# Altium footprint library Connector_Samtec_HLE_SMD.PcbLib: 290 footprints (part 15 of 24)
Each footprint in its own frame and in the unit in brackets; x right, y up, seen from the top. Pads: shape width x height; smd on the part's side, far side on the other; paste and mask are expansions set on the pad; w line width, h text height; cw(c..) or ccw(c..) is an arc to the next point about the centre after c.
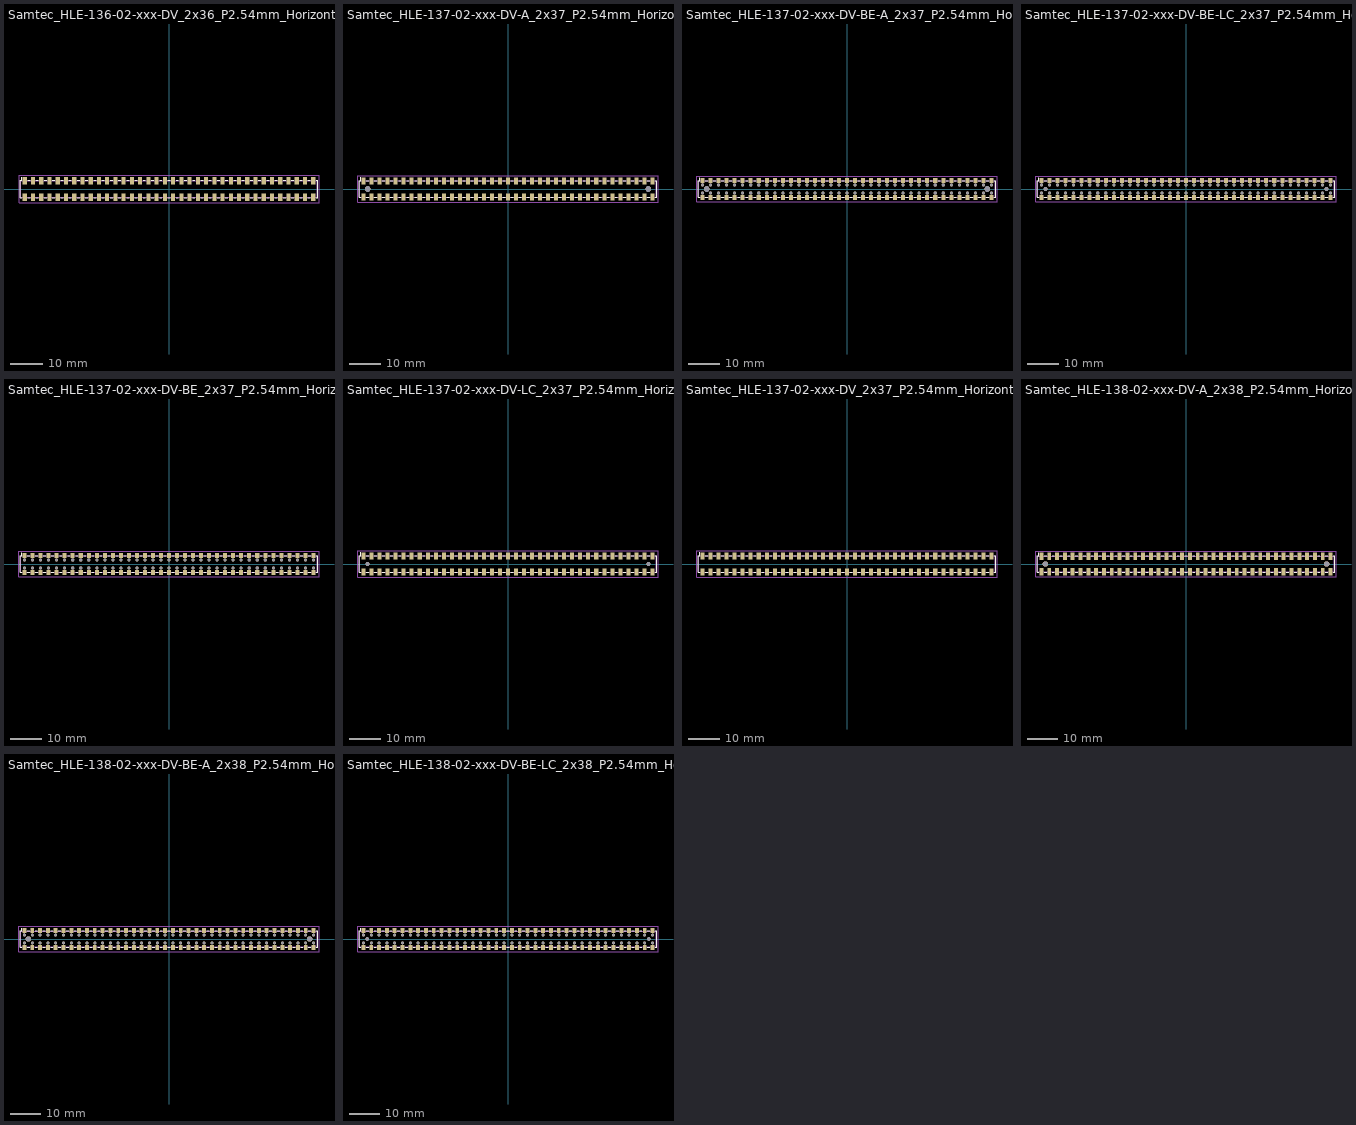
[diagram p14: the footprints below, top view; thin cyan lines are the x and y axes]

## Samtec_HLE-136-02-xxx-DV_2x36_P2.54mm_Horizontal [mm]
pads (72):
  rect 1.27x2.29 smd: 1(-44.45,2.525) 2(-44.45,-2.525) 3(-41.91,2.525) 4(-41.91,-2.525) 5(-39.37,2.525) 6(-39.37,-2.525) 7(-36.83,2.525) 8(-36.83,-2.525) 9(-34.29,2.525) 10(-34.29,-2.525) 11(-31.75,2.525) 12(-31.75,-2.525) 13(-29.21,2.525) 14(-29.21,-2.525) 15(-26.67,2.525) 16(-26.67,-2.525) 17(-24.13,2.525) 18(-24.13,-2.525) 19(-21.59,2.525) 20(-21.59,-2.525) 21(-19.05,2.525) 22(-19.05,-2.525) 23(-16.51,2.525) 24(-16.51,-2.525) 25(-13.97,2.525) 26(-13.97,-2.525) 27(-11.43,2.525) 28(-11.43,-2.525) 29(-8.89,2.525) 30(-8.89,-2.525) 31(-6.35,2.525) 32(-6.35,-2.525) 33(-3.81,2.525) 34(-3.81,-2.525) 35(-1.27,2.525) 36(-1.27,-2.525) 37(1.27,2.525) 38(1.27,-2.525) 39(3.81,2.525) 40(3.81,-2.525) 41(6.35,2.525) 42(6.35,-2.525) 43(8.89,2.525) 44(8.89,-2.525) 45(11.43,2.525) 46(11.43,-2.525) 47(13.97,2.525) 48(13.97,-2.525) 49(16.51,2.525) 50(16.51,-2.525) 51(19.05,2.525) 52(19.05,-2.525) 53(21.59,2.525) 54(21.59,-2.525) 55(24.13,2.525) 56(24.13,-2.525) 57(26.67,2.525) 58(26.67,-2.525) 59(29.21,2.525) 60(29.21,-2.525) 61(31.75,2.525) 62(31.75,-2.525) 63(34.29,2.525) 64(34.29,-2.525) 65(36.83,2.525) 66(36.83,-2.525) 67(39.37,2.525) 68(39.37,-2.525) 69(41.91,2.525) 70(41.91,-2.525) 71(44.45,2.525) 72(44.45,-2.525)
F.SilkS:
  lines w0.254: -45.345,-2.65 -45.83,-2.65 -45.83,2.65 -45.345,2.65 -45.345,3.67 ; -43.555,-2.65 -42.805,-2.65 ; -43.555,2.65 -42.805,2.65 ; -41.015,-2.65 -40.265,-2.65 ; -41.015,2.65 -40.265,2.65 ; -38.475,-2.65 -37.725,-2.65 ; -38.475,2.65 -37.725,2.65 ; -35.935,-2.65 -35.185,-2.65 ; -35.935,2.65 -35.185,2.65 ; -33.395,-2.65 -32.645,-2.65 ; -33.395,2.65 -32.645,2.65 ; -30.855,-2.65 -30.105,-2.65 ; -30.855,2.65 -30.105,2.65 ; -28.315,-2.65 -27.565,-2.65 ; -28.315,2.65 -27.565,2.65 ; -25.775,-2.65 -25.025,-2.65 ; -25.775,2.65 -25.025,2.65 ; -23.235,-2.65 -22.485,-2.65 ; -23.235,2.65 -22.485,2.65 ; -20.695,-2.65 -19.945,-2.65 ; -20.695,2.65 -19.945,2.65 ; -18.155,-2.65 -17.405,-2.65 ; -18.155,2.65 -17.405,2.65 ; -15.615,-2.65 -14.865,-2.65 ; -15.615,2.65 -14.865,2.65 ; -13.075,-2.65 -12.325,-2.65 ; -13.075,2.65 -12.325,2.65 ; -10.535,-2.65 -9.785,-2.65 ; -10.535,2.65 -9.785,2.65 ; -7.995,-2.65 -7.245,-2.65 ; -7.995,2.65 -7.245,2.65 ; -5.455,-2.65 -4.705,-2.65 ; -5.455,2.65 -4.705,2.65 ; -2.915,-2.65 -2.165,-2.65 ; -2.915,2.65 -2.165,2.65 ; -0.375,-2.65 0.375,-2.65 ; -0.375,2.65 0.375,2.65 ; 2.165,-2.65 2.915,-2.65 ; 2.165,2.65 2.915,2.65 ; 4.705,-2.65 5.455,-2.65 ; 4.705,2.65 5.455,2.65 ; 7.245,-2.65 7.995,-2.65 ; 7.245,2.65 7.995,2.65 ; 9.785,-2.65 10.535,-2.65 ; 9.785,2.65 10.535,2.65 ; 12.325,-2.65 13.075,-2.65 ; 12.325,2.65 13.075,2.65 ; 14.865,-2.65 15.615,-2.65 ; 14.865,2.65 15.615,2.65 ; 17.405,-2.65 18.155,-2.65 ; 17.405,2.65 18.155,2.65 ; 19.945,-2.65 20.695,-2.65 ; 19.945,2.65 20.695,2.65 ; 22.485,-2.65 23.235,-2.65 ; 22.485,2.65 23.235,2.65 ; 25.025,-2.65 25.775,-2.65 ; 25.025,2.65 25.775,2.65 ; 27.565,-2.65 28.315,-2.65 ; 27.565,2.65 28.315,2.65 ; 30.105,-2.65 30.855,-2.65 ; 30.105,2.65 30.855,2.65 ; 32.645,-2.65 33.395,-2.65 ; 32.645,2.65 33.395,2.65 ; 35.185,-2.65 35.935,-2.65 ; 35.185,2.65 35.935,2.65 ; 37.725,-2.65 38.475,-2.65 ; 37.725,2.65 38.475,2.65 ; 40.265,-2.65 41.015,-2.65 ; 40.265,2.65 41.015,2.65 ; 42.805,-2.65 43.555,-2.65 ; 42.805,2.65 43.555,2.65 ; 45.345,-2.65 45.83,-2.65 45.83,2.65 45.345,2.65
Top Assembly:
  lines w0.254: -44.95,2.54 -44.45,1.833 -43.95,2.54 ; -45.72,-2.54 45.72,-2.54 45.72,2.54 -45.72,2.54 -45.72,-2.54
  text "'.Designator'" at -4.047,-2.68 h1
Top Courtyard:
  lines w0.254: -46.22,-4.17 46.22,-4.17 46.22,4.17 -46.22,4.17 -46.22,-4.17
Top Designator:
  text ".Designator" at -7.618,-0.508 h1.52

## Samtec_HLE-137-02-xxx-DV-A_2x37_P2.54mm_Horizontal [mm]
pads (76):
  rect 1.27x2.29 smd: 1(-45.72,2.525) 2(-45.72,-2.525) 3(-43.18,2.525) 4(-43.18,-2.525) 5(-40.64,2.525) 6(-40.64,-2.525) 7(-38.1,2.525) 8(-38.1,-2.525) 9(-35.56,2.525) 10(-35.56,-2.525) 11(-33.02,2.525) 12(-33.02,-2.525) 13(-30.48,2.525) 14(-30.48,-2.525) 15(-27.94,2.525) 16(-27.94,-2.525) 17(-25.4,2.525) 18(-25.4,-2.525) 19(-22.86,2.525) 20(-22.86,-2.525) 21(-20.32,2.525) 22(-20.32,-2.525) 23(-17.78,2.525) 24(-17.78,-2.525) 25(-15.24,2.525) 26(-15.24,-2.525) 27(-12.7,2.525) 28(-12.7,-2.525) 29(-10.16,2.525) 30(-10.16,-2.525) 31(-7.62,2.525) 32(-7.62,-2.525) 33(-5.08,2.525) 34(-5.08,-2.525) 35(-2.54,2.525) 36(-2.54,-2.525) 37(0,2.525) 38(0,-2.525) 39(2.54,2.525) 40(2.54,-2.525) 41(5.08,2.525) 42(5.08,-2.525) 43(7.62,2.525) 44(7.62,-2.525) 45(10.16,2.525) 46(10.16,-2.525) 47(12.7,2.525) 48(12.7,-2.525) 49(15.24,2.525) 50(15.24,-2.525) 51(17.78,2.525) 52(17.78,-2.525) 53(20.32,2.525) 54(20.32,-2.525) 55(22.86,2.525) 56(22.86,-2.525) 57(25.4,2.525) 58(25.4,-2.525) 59(27.94,2.525) 60(27.94,-2.525) 61(30.48,2.525) 62(30.48,-2.525) 63(33.02,2.525) 64(33.02,-2.525) 65(35.56,2.525) 66(35.56,-2.525) 67(38.1,2.525) 68(38.1,-2.525) 69(40.64,2.525) 70(40.64,-2.525) 71(43.18,2.525) 72(43.18,-2.525) 73(45.72,2.525) 74(45.72,-2.525)
  round 1.78 hole 1.78: Un1(-44.45,0) Un2(44.45,0)
F.SilkS:
  lines w0.254: -46.615,-2.65 -47.1,-2.65 -47.1,2.65 -46.615,2.65 -46.615,3.67 ; -44.825,-2.65 -44.075,-2.65 ; -44.825,2.65 -44.075,2.65 ; -42.285,-2.65 -41.535,-2.65 ; -42.285,2.65 -41.535,2.65 ; -39.745,-2.65 -38.995,-2.65 ; -39.745,2.65 -38.995,2.65 ; -37.205,-2.65 -36.455,-2.65 ; -37.205,2.65 -36.455,2.65 ; -34.665,-2.65 -33.915,-2.65 ; -34.665,2.65 -33.915,2.65 ; -32.125,-2.65 -31.375,-2.65 ; -32.125,2.65 -31.375,2.65 ; -29.585,-2.65 -28.835,-2.65 ; -29.585,2.65 -28.835,2.65 ; -27.045,-2.65 -26.295,-2.65 ; -27.045,2.65 -26.295,2.65 ; -24.505,-2.65 -23.755,-2.65 ; -24.505,2.65 -23.755,2.65 ; -21.965,-2.65 -21.215,-2.65 ; -21.965,2.65 -21.215,2.65 ; -19.425,-2.65 -18.675,-2.65 ; -19.425,2.65 -18.675,2.65 ; -16.885,-2.65 -16.135,-2.65 ; -16.885,2.65 -16.135,2.65 ; -14.345,-2.65 -13.595,-2.65 ; -14.345,2.65 -13.595,2.65 ; -11.805,-2.65 -11.055,-2.65 ; -11.805,2.65 -11.055,2.65 ; -9.265,-2.65 -8.515,-2.65 ; -9.265,2.65 -8.515,2.65 ; -6.725,-2.65 -5.975,-2.65 ; -6.725,2.65 -5.975,2.65 ; -4.185,-2.65 -3.435,-2.65 ; -4.185,2.65 -3.435,2.65 ; -1.645,-2.65 -0.895,-2.65 ; -1.645,2.65 -0.895,2.65 ; 0.895,-2.65 1.645,-2.65 ; 0.895,2.65 1.645,2.65 ; 3.435,-2.65 4.185,-2.65 ; 3.435,2.65 4.185,2.65 ; 5.975,-2.65 6.725,-2.65 ; 5.975,2.65 6.725,2.65 ; 8.515,-2.65 9.265,-2.65 ; 8.515,2.65 9.265,2.65 ; 11.055,-2.65 11.805,-2.65 ; 11.055,2.65 11.805,2.65 ; 13.595,-2.65 14.345,-2.65 ; 13.595,2.65 14.345,2.65 ; 16.135,-2.65 16.885,-2.65 ; 16.135,2.65 16.885,2.65 ; 18.675,-2.65 19.425,-2.65 ; 18.675,2.65 19.425,2.65 ; 21.215,-2.65 21.965,-2.65 ; 21.215,2.65 21.965,2.65 ; 23.755,-2.65 24.505,-2.65 ; 23.755,2.65 24.505,2.65 ; 26.295,-2.65 27.045,-2.65 ; 26.295,2.65 27.045,2.65 ; 28.835,-2.65 29.585,-2.65 ; 28.835,2.65 29.585,2.65 ; 31.375,-2.65 32.125,-2.65 ; 31.375,2.65 32.125,2.65 ; 33.915,-2.65 34.665,-2.65 ; 33.915,2.65 34.665,2.65 ; 36.455,-2.65 37.205,-2.65 ; 36.455,2.65 37.205,2.65 ; 38.995,-2.65 39.745,-2.65 ; 38.995,2.65 39.745,2.65 ; 41.535,-2.65 42.285,-2.65 ; 41.535,2.65 42.285,2.65 ; 44.075,-2.65 44.825,-2.65 ; 44.075,2.65 44.825,2.65 ; 46.615,-2.65 47.1,-2.65 47.1,2.65 46.615,2.65
Top Assembly:
  lines w0.254: -46.22,2.54 -45.72,1.833 -45.22,2.54 ; -46.99,-2.54 46.99,-2.54 46.99,2.54 -46.99,2.54 -46.99,-2.54
  text "'.Designator'" at -4.047,-2.68 h1
Top Courtyard:
  lines w0.254: -47.49,-4.17 47.49,-4.17 47.49,4.17 -47.49,4.17 -47.49,-4.17
Top Designator:
  text ".Designator" at -7.618,-0.508 h1.52

## Samtec_HLE-137-02-xxx-DV-BE-A_2x37_P2.54mm_Horizontal [mm]
pads (150):
  rect 1.27x1.68 smd: 1(-45.72,2.72) 2(-45.72,-2.72) 3(-43.18,2.72) 4(-43.18,-2.72) 5(-40.64,2.72) 6(-40.64,-2.72) 7(-38.1,2.72) 8(-38.1,-2.72) 9(-35.56,2.72) 10(-35.56,-2.72) 11(-33.02,2.72) 12(-33.02,-2.72) 13(-30.48,2.72) 14(-30.48,-2.72) 15(-27.94,2.72) 16(-27.94,-2.72) 17(-25.4,2.72) 18(-25.4,-2.72) 19(-22.86,2.72) 20(-22.86,-2.72) 21(-20.32,2.72) 22(-20.32,-2.72) 23(-17.78,2.72) 24(-17.78,-2.72) 25(-15.24,2.72) 26(-15.24,-2.72) 27(-12.7,2.72) 28(-12.7,-2.72) 29(-10.16,2.72) 30(-10.16,-2.72) 31(-7.62,2.72) 32(-7.62,-2.72) 33(-5.08,2.72) 34(-5.08,-2.72) 35(-2.54,2.72) 36(-2.54,-2.72) 37(0,2.72) 38(0,-2.72) 39(2.54,2.72) 40(2.54,-2.72) 41(5.08,2.72) 42(5.08,-2.72) 43(7.62,2.72) 44(7.62,-2.72) 45(10.16,2.72) 46(10.16,-2.72) 47(12.7,2.72) 48(12.7,-2.72) 49(15.24,2.72) 50(15.24,-2.72) 51(17.78,2.72) 52(17.78,-2.72) 53(20.32,2.72) 54(20.32,-2.72) 55(22.86,2.72) 56(22.86,-2.72) 57(25.4,2.72) 58(25.4,-2.72) 59(27.94,2.72) 60(27.94,-2.72) 61(30.48,2.72) 62(30.48,-2.72) 63(33.02,2.72) 64(33.02,-2.72) 65(35.56,2.72) 66(35.56,-2.72) 67(38.1,2.72) 68(38.1,-2.72) 69(40.64,2.72) 70(40.64,-2.72) 71(43.18,2.72) 72(43.18,-2.72) 73(45.72,2.72) 74(45.72,-2.72)
  round 0.97 hole 0.97: Un1(-45.72,1.27) Un2(-45.72,-1.27) Un4(-43.18,1.27) Un5(-43.18,-1.27) Un6(-40.64,1.27) Un7(-40.64,-1.27) Un8(-38.1,1.27) Un9(-38.1,-1.27) Un10(-35.56,1.27) Un11(-35.56,-1.27) Un12(-33.02,1.27) Un13(-33.02,-1.27) Un14(-30.48,1.27) Un15(-30.48,-1.27) Un16(-27.94,1.27) Un17(-27.94,-1.27) Un18(-25.4,1.27) Un19(-25.4,-1.27) Un20(-22.86,1.27) Un21(-22.86,-1.27) Un22(-20.32,1.27) Un23(-20.32,-1.27) Un24(-17.78,1.27) Un25(-17.78,-1.27) Un26(-15.24,1.27) Un27(-15.24,-1.27) Un28(-12.7,1.27) Un29(-12.7,-1.27) Un30(-10.16,1.27) Un31(-10.16,-1.27) Un32(-7.62,1.27) Un33(-7.62,-1.27) Un34(-5.08,1.27) Un35(-5.08,-1.27) Un36(-2.54,1.27) Un37(-2.54,-1.27) Un38(0,1.27) Un39(0,-1.27) Un40(2.54,1.27) Un41(2.54,-1.27) Un42(5.08,1.27) Un43(5.08,-1.27) Un44(7.62,1.27) Un45(7.62,-1.27) Un46(10.16,1.27) Un47(10.16,-1.27) Un48(12.7,1.27) Un49(12.7,-1.27) Un50(15.24,1.27) Un51(15.24,-1.27) Un52(17.78,1.27) Un53(17.78,-1.27) Un54(20.32,1.27) Un55(20.32,-1.27) Un56(22.86,1.27) Un57(22.86,-1.27) Un58(25.4,1.27) Un59(25.4,-1.27) Un60(27.94,1.27) Un61(27.94,-1.27) Un62(30.48,1.27) Un63(30.48,-1.27) Un64(33.02,1.27) Un65(33.02,-1.27) Un66(35.56,1.27) Un67(35.56,-1.27) Un68(38.1,1.27) Un69(38.1,-1.27) Un70(40.64,1.27) Un71(40.64,-1.27) Un72(43.18,1.27) Un73(43.18,-1.27) Un75(45.72,1.27) Un76(45.72,-1.27)
  round 1.78 hole 1.78: Un3(-44.45,0) Un74(44.45,0)
F.SilkS:
  lines w0.254: -46.615,-2.65 -47.1,-2.65 -47.1,2.65 -46.615,2.65 -46.615,3.56 ; -44.825,-2.65 -44.075,-2.65 ; -44.825,2.65 -44.075,2.65 ; -42.285,-2.65 -41.535,-2.65 ; -42.285,2.65 -41.535,2.65 ; -39.745,-2.65 -38.995,-2.65 ; -39.745,2.65 -38.995,2.65 ; -37.205,-2.65 -36.455,-2.65 ; -37.205,2.65 -36.455,2.65 ; -34.665,-2.65 -33.915,-2.65 ; -34.665,2.65 -33.915,2.65 ; -32.125,-2.65 -31.375,-2.65 ; -32.125,2.65 -31.375,2.65 ; -29.585,-2.65 -28.835,-2.65 ; -29.585,2.65 -28.835,2.65 ; -27.045,-2.65 -26.295,-2.65 ; -27.045,2.65 -26.295,2.65 ; -24.505,-2.65 -23.755,-2.65 ; -24.505,2.65 -23.755,2.65 ; -21.965,-2.65 -21.215,-2.65 ; -21.965,2.65 -21.215,2.65 ; -19.425,-2.65 -18.675,-2.65 ; -19.425,2.65 -18.675,2.65 ; -16.885,-2.65 -16.135,-2.65 ; -16.885,2.65 -16.135,2.65 ; -14.345,-2.65 -13.595,-2.65 ; -14.345,2.65 -13.595,2.65 ; -11.805,-2.65 -11.055,-2.65 ; -11.805,2.65 -11.055,2.65 ; -9.265,-2.65 -8.515,-2.65 ; -9.265,2.65 -8.515,2.65 ; -6.725,-2.65 -5.975,-2.65 ; -6.725,2.65 -5.975,2.65 ; -4.185,-2.65 -3.435,-2.65 ; -4.185,2.65 -3.435,2.65 ; -1.645,-2.65 -0.895,-2.65 ; -1.645,2.65 -0.895,2.65 ; 0.895,-2.65 1.645,-2.65 ; 0.895,2.65 1.645,2.65 ; 3.435,-2.65 4.185,-2.65 ; 3.435,2.65 4.185,2.65 ; 5.975,-2.65 6.725,-2.65 ; 5.975,2.65 6.725,2.65 ; 8.515,-2.65 9.265,-2.65 ; 8.515,2.65 9.265,2.65 ; 11.055,-2.65 11.805,-2.65 ; 11.055,2.65 11.805,2.65 ; 13.595,-2.65 14.345,-2.65 ; 13.595,2.65 14.345,2.65 ; 16.135,-2.65 16.885,-2.65 ; 16.135,2.65 16.885,2.65 ; 18.675,-2.65 19.425,-2.65 ; 18.675,2.65 19.425,2.65 ; 21.215,-2.65 21.965,-2.65 ; 21.215,2.65 21.965,2.65 ; 23.755,-2.65 24.505,-2.65 ; 23.755,2.65 24.505,2.65 ; 26.295,-2.65 27.045,-2.65 ; 26.295,2.65 27.045,2.65 ; 28.835,-2.65 29.585,-2.65 ; 28.835,2.65 29.585,2.65 ; 31.375,-2.65 32.125,-2.65 ; 31.375,2.65 32.125,2.65 ; 33.915,-2.65 34.665,-2.65 ; 33.915,2.65 34.665,2.65 ; 36.455,-2.65 37.205,-2.65 ; 36.455,2.65 37.205,2.65 ; 38.995,-2.65 39.745,-2.65 ; 38.995,2.65 39.745,2.65 ; 41.535,-2.65 42.285,-2.65 ; 41.535,2.65 42.285,2.65 ; 44.075,-2.65 44.825,-2.65 ; 44.075,2.65 44.825,2.65 ; 46.615,-2.65 47.1,-2.65 47.1,2.65 46.615,2.65
Top Assembly:
  lines w0.254: -46.22,2.54 -45.72,1.833 -45.22,2.54 ; -46.99,-2.54 46.99,-2.54 46.99,2.54 -46.99,2.54 -46.99,-2.54
  text "'.Designator'" at -4.047,-2.68 h1
Top Courtyard:
  lines w0.254: -47.49,-4.07 47.49,-4.07 47.49,4.07 -47.49,4.07 -47.49,-4.07
Top Designator:
  text ".Designator" at -7.618,-0.508 h1.52

## Samtec_HLE-137-02-xxx-DV-BE-LC_2x37_P2.54mm_Horizontal [mm]
pads (150):
  rect 1.27x1.68 smd: 1(-45.72,2.72) 2(-45.72,-2.72) 3(-43.18,2.72) 4(-43.18,-2.72) 5(-40.64,2.72) 6(-40.64,-2.72) 7(-38.1,2.72) 8(-38.1,-2.72) 9(-35.56,2.72) 10(-35.56,-2.72) 11(-33.02,2.72) 12(-33.02,-2.72) 13(-30.48,2.72) 14(-30.48,-2.72) 15(-27.94,2.72) 16(-27.94,-2.72) 17(-25.4,2.72) 18(-25.4,-2.72) 19(-22.86,2.72) 20(-22.86,-2.72) 21(-20.32,2.72) 22(-20.32,-2.72) 23(-17.78,2.72) 24(-17.78,-2.72) 25(-15.24,2.72) 26(-15.24,-2.72) 27(-12.7,2.72) 28(-12.7,-2.72) 29(-10.16,2.72) 30(-10.16,-2.72) 31(-7.62,2.72) 32(-7.62,-2.72) 33(-5.08,2.72) 34(-5.08,-2.72) 35(-2.54,2.72) 36(-2.54,-2.72) 37(0,2.72) 38(0,-2.72) 39(2.54,2.72) 40(2.54,-2.72) 41(5.08,2.72) 42(5.08,-2.72) 43(7.62,2.72) 44(7.62,-2.72) 45(10.16,2.72) 46(10.16,-2.72) 47(12.7,2.72) 48(12.7,-2.72) 49(15.24,2.72) 50(15.24,-2.72) 51(17.78,2.72) 52(17.78,-2.72) 53(20.32,2.72) 54(20.32,-2.72) 55(22.86,2.72) 56(22.86,-2.72) 57(25.4,2.72) 58(25.4,-2.72) 59(27.94,2.72) 60(27.94,-2.72) 61(30.48,2.72) 62(30.48,-2.72) 63(33.02,2.72) 64(33.02,-2.72) 65(35.56,2.72) 66(35.56,-2.72) 67(38.1,2.72) 68(38.1,-2.72) 69(40.64,2.72) 70(40.64,-2.72) 71(43.18,2.72) 72(43.18,-2.72) 73(45.72,2.72) 74(45.72,-2.72)
  round 0.97 hole 0.97: Un1(-45.72,1.27) Un2(-45.72,-1.27) Un4(-43.18,1.27) Un5(-43.18,-1.27) Un6(-40.64,1.27) Un7(-40.64,-1.27) Un8(-38.1,1.27) Un9(-38.1,-1.27) Un10(-35.56,1.27) Un11(-35.56,-1.27) Un12(-33.02,1.27) Un13(-33.02,-1.27) Un14(-30.48,1.27) Un15(-30.48,-1.27) Un16(-27.94,1.27) Un17(-27.94,-1.27) Un18(-25.4,1.27) Un19(-25.4,-1.27) Un20(-22.86,1.27) Un21(-22.86,-1.27) Un22(-20.32,1.27) Un23(-20.32,-1.27) Un24(-17.78,1.27) Un25(-17.78,-1.27) Un26(-15.24,1.27) Un27(-15.24,-1.27) Un28(-12.7,1.27) Un29(-12.7,-1.27) Un30(-10.16,1.27) Un31(-10.16,-1.27) Un32(-7.62,1.27) Un33(-7.62,-1.27) Un34(-5.08,1.27) Un35(-5.08,-1.27) Un36(-2.54,1.27) Un37(-2.54,-1.27) Un38(0,1.27) Un39(0,-1.27) Un40(2.54,1.27) Un41(2.54,-1.27) Un42(5.08,1.27) Un43(5.08,-1.27) Un44(7.62,1.27) Un45(7.62,-1.27) Un46(10.16,1.27) Un47(10.16,-1.27) Un48(12.7,1.27) Un49(12.7,-1.27) Un50(15.24,1.27) Un51(15.24,-1.27) Un52(17.78,1.27) Un53(17.78,-1.27) Un54(20.32,1.27) Un55(20.32,-1.27) Un56(22.86,1.27) Un57(22.86,-1.27) Un58(25.4,1.27) Un59(25.4,-1.27) Un60(27.94,1.27) Un61(27.94,-1.27) Un62(30.48,1.27) Un63(30.48,-1.27) Un64(33.02,1.27) Un65(33.02,-1.27) Un66(35.56,1.27) Un67(35.56,-1.27) Un68(38.1,1.27) Un69(38.1,-1.27) Un70(40.64,1.27) Un71(40.64,-1.27) Un72(43.18,1.27) Un73(43.18,-1.27) Un75(45.72,1.27) Un76(45.72,-1.27)
  round 1.19 hole 1.19: Un3(-44.45,0) Un74(44.45,0)
F.SilkS:
  lines w0.254: -46.615,-2.65 -47.1,-2.65 -47.1,2.65 -46.615,2.65 -46.615,3.56 ; -44.825,-2.65 -44.075,-2.65 ; -44.825,2.65 -44.075,2.65 ; -42.285,-2.65 -41.535,-2.65 ; -42.285,2.65 -41.535,2.65 ; -39.745,-2.65 -38.995,-2.65 ; -39.745,2.65 -38.995,2.65 ; -37.205,-2.65 -36.455,-2.65 ; -37.205,2.65 -36.455,2.65 ; -34.665,-2.65 -33.915,-2.65 ; -34.665,2.65 -33.915,2.65 ; -32.125,-2.65 -31.375,-2.65 ; -32.125,2.65 -31.375,2.65 ; -29.585,-2.65 -28.835,-2.65 ; -29.585,2.65 -28.835,2.65 ; -27.045,-2.65 -26.295,-2.65 ; -27.045,2.65 -26.295,2.65 ; -24.505,-2.65 -23.755,-2.65 ; -24.505,2.65 -23.755,2.65 ; -21.965,-2.65 -21.215,-2.65 ; -21.965,2.65 -21.215,2.65 ; -19.425,-2.65 -18.675,-2.65 ; -19.425,2.65 -18.675,2.65 ; -16.885,-2.65 -16.135,-2.65 ; -16.885,2.65 -16.135,2.65 ; -14.345,-2.65 -13.595,-2.65 ; -14.345,2.65 -13.595,2.65 ; -11.805,-2.65 -11.055,-2.65 ; -11.805,2.65 -11.055,2.65 ; -9.265,-2.65 -8.515,-2.65 ; -9.265,2.65 -8.515,2.65 ; -6.725,-2.65 -5.975,-2.65 ; -6.725,2.65 -5.975,2.65 ; -4.185,-2.65 -3.435,-2.65 ; -4.185,2.65 -3.435,2.65 ; -1.645,-2.65 -0.895,-2.65 ; -1.645,2.65 -0.895,2.65 ; 0.895,-2.65 1.645,-2.65 ; 0.895,2.65 1.645,2.65 ; 3.435,-2.65 4.185,-2.65 ; 3.435,2.65 4.185,2.65 ; 5.975,-2.65 6.725,-2.65 ; 5.975,2.65 6.725,2.65 ; 8.515,-2.65 9.265,-2.65 ; 8.515,2.65 9.265,2.65 ; 11.055,-2.65 11.805,-2.65 ; 11.055,2.65 11.805,2.65 ; 13.595,-2.65 14.345,-2.65 ; 13.595,2.65 14.345,2.65 ; 16.135,-2.65 16.885,-2.65 ; 16.135,2.65 16.885,2.65 ; 18.675,-2.65 19.425,-2.65 ; 18.675,2.65 19.425,2.65 ; 21.215,-2.65 21.965,-2.65 ; 21.215,2.65 21.965,2.65 ; 23.755,-2.65 24.505,-2.65 ; 23.755,2.65 24.505,2.65 ; 26.295,-2.65 27.045,-2.65 ; 26.295,2.65 27.045,2.65 ; 28.835,-2.65 29.585,-2.65 ; 28.835,2.65 29.585,2.65 ; 31.375,-2.65 32.125,-2.65 ; 31.375,2.65 32.125,2.65 ; 33.915,-2.65 34.665,-2.65 ; 33.915,2.65 34.665,2.65 ; 36.455,-2.65 37.205,-2.65 ; 36.455,2.65 37.205,2.65 ; 38.995,-2.65 39.745,-2.65 ; 38.995,2.65 39.745,2.65 ; 41.535,-2.65 42.285,-2.65 ; 41.535,2.65 42.285,2.65 ; 44.075,-2.65 44.825,-2.65 ; 44.075,2.65 44.825,2.65 ; 46.615,-2.65 47.1,-2.65 47.1,2.65 46.615,2.65
Top Assembly:
  lines w0.254: -46.22,2.54 -45.72,1.833 -45.22,2.54 ; -46.99,-2.54 46.99,-2.54 46.99,2.54 -46.99,2.54 -46.99,-2.54
  text "'.Designator'" at -4.047,-2.68 h1
Top Courtyard:
  lines w0.254: -47.49,-4.07 47.49,-4.07 47.49,4.07 -47.49,4.07 -47.49,-4.07
Top Designator:
  text ".Designator" at -7.618,-0.508 h1.52

## Samtec_HLE-137-02-xxx-DV-BE_2x37_P2.54mm_Horizontal [mm]
pads (148):
  rect 1.27x1.68 smd: 1(-45.72,2.72) 2(-45.72,-2.72) 3(-43.18,2.72) 4(-43.18,-2.72) 5(-40.64,2.72) 6(-40.64,-2.72) 7(-38.1,2.72) 8(-38.1,-2.72) 9(-35.56,2.72) 10(-35.56,-2.72) 11(-33.02,2.72) 12(-33.02,-2.72) 13(-30.48,2.72) 14(-30.48,-2.72) 15(-27.94,2.72) 16(-27.94,-2.72) 17(-25.4,2.72) 18(-25.4,-2.72) 19(-22.86,2.72) 20(-22.86,-2.72) 21(-20.32,2.72) 22(-20.32,-2.72) 23(-17.78,2.72) 24(-17.78,-2.72) 25(-15.24,2.72) 26(-15.24,-2.72) 27(-12.7,2.72) 28(-12.7,-2.72) 29(-10.16,2.72) 30(-10.16,-2.72) 31(-7.62,2.72) 32(-7.62,-2.72) 33(-5.08,2.72) 34(-5.08,-2.72) 35(-2.54,2.72) 36(-2.54,-2.72) 37(0,2.72) 38(0,-2.72) 39(2.54,2.72) 40(2.54,-2.72) 41(5.08,2.72) 42(5.08,-2.72) 43(7.62,2.72) 44(7.62,-2.72) 45(10.16,2.72) 46(10.16,-2.72) 47(12.7,2.72) 48(12.7,-2.72) 49(15.24,2.72) 50(15.24,-2.72) 51(17.78,2.72) 52(17.78,-2.72) 53(20.32,2.72) 54(20.32,-2.72) 55(22.86,2.72) 56(22.86,-2.72) 57(25.4,2.72) 58(25.4,-2.72) 59(27.94,2.72) 60(27.94,-2.72) 61(30.48,2.72) 62(30.48,-2.72) 63(33.02,2.72) 64(33.02,-2.72) 65(35.56,2.72) 66(35.56,-2.72) 67(38.1,2.72) 68(38.1,-2.72) 69(40.64,2.72) 70(40.64,-2.72) 71(43.18,2.72) 72(43.18,-2.72) 73(45.72,2.72) 74(45.72,-2.72)
  round 0.97 hole 0.97: Un1(-45.72,1.27) Un2(-45.72,-1.27) Un3(-43.18,1.27) Un4(-43.18,-1.27) Un5(-40.64,1.27) Un6(-40.64,-1.27) Un7(-38.1,1.27) Un8(-38.1,-1.27) Un9(-35.56,1.27) Un10(-35.56,-1.27) Un11(-33.02,1.27) Un12(-33.02,-1.27) Un13(-30.48,1.27) Un14(-30.48,-1.27) Un15(-27.94,1.27) Un16(-27.94,-1.27) Un17(-25.4,1.27) Un18(-25.4,-1.27) Un19(-22.86,1.27) Un20(-22.86,-1.27) Un21(-20.32,1.27) Un22(-20.32,-1.27) Un23(-17.78,1.27) Un24(-17.78,-1.27) Un25(-15.24,1.27) Un26(-15.24,-1.27) Un27(-12.7,1.27) Un28(-12.7,-1.27) Un29(-10.16,1.27) Un30(-10.16,-1.27) Un31(-7.62,1.27) Un32(-7.62,-1.27) Un33(-5.08,1.27) Un34(-5.08,-1.27) Un35(-2.54,1.27) Un36(-2.54,-1.27) Un37(0,1.27) Un38(0,-1.27) Un39(2.54,1.27) Un40(2.54,-1.27) Un41(5.08,1.27) Un42(5.08,-1.27) Un43(7.62,1.27) Un44(7.62,-1.27) Un45(10.16,1.27) Un46(10.16,-1.27) Un47(12.7,1.27) Un48(12.7,-1.27) Un49(15.24,1.27) Un50(15.24,-1.27) Un51(17.78,1.27) Un52(17.78,-1.27) Un53(20.32,1.27) Un54(20.32,-1.27) Un55(22.86,1.27) Un56(22.86,-1.27) Un57(25.4,1.27) Un58(25.4,-1.27) Un59(27.94,1.27) Un60(27.94,-1.27) Un61(30.48,1.27) Un62(30.48,-1.27) Un63(33.02,1.27) Un64(33.02,-1.27) Un65(35.56,1.27) Un66(35.56,-1.27) Un67(38.1,1.27) Un68(38.1,-1.27) Un69(40.64,1.27) Un70(40.64,-1.27) Un71(43.18,1.27) Un72(43.18,-1.27) Un73(45.72,1.27) Un74(45.72,-1.27)
F.SilkS:
  lines w0.254: -46.615,-2.65 -47.1,-2.65 -47.1,2.65 -46.615,2.65 -46.615,3.56 ; -44.825,-2.65 -44.075,-2.65 ; -44.825,2.65 -44.075,2.65 ; -42.285,-2.65 -41.535,-2.65 ; -42.285,2.65 -41.535,2.65 ; -39.745,-2.65 -38.995,-2.65 ; -39.745,2.65 -38.995,2.65 ; -37.205,-2.65 -36.455,-2.65 ; -37.205,2.65 -36.455,2.65 ; -34.665,-2.65 -33.915,-2.65 ; -34.665,2.65 -33.915,2.65 ; -32.125,-2.65 -31.375,-2.65 ; -32.125,2.65 -31.375,2.65 ; -29.585,-2.65 -28.835,-2.65 ; -29.585,2.65 -28.835,2.65 ; -27.045,-2.65 -26.295,-2.65 ; -27.045,2.65 -26.295,2.65 ; -24.505,-2.65 -23.755,-2.65 ; -24.505,2.65 -23.755,2.65 ; -21.965,-2.65 -21.215,-2.65 ; -21.965,2.65 -21.215,2.65 ; -19.425,-2.65 -18.675,-2.65 ; -19.425,2.65 -18.675,2.65 ; -16.885,-2.65 -16.135,-2.65 ; -16.885,2.65 -16.135,2.65 ; -14.345,-2.65 -13.595,-2.65 ; -14.345,2.65 -13.595,2.65 ; -11.805,-2.65 -11.055,-2.65 ; -11.805,2.65 -11.055,2.65 ; -9.265,-2.65 -8.515,-2.65 ; -9.265,2.65 -8.515,2.65 ; -6.725,-2.65 -5.975,-2.65 ; -6.725,2.65 -5.975,2.65 ; -4.185,-2.65 -3.435,-2.65 ; -4.185,2.65 -3.435,2.65 ; -1.645,-2.65 -0.895,-2.65 ; -1.645,2.65 -0.895,2.65 ; 0.895,-2.65 1.645,-2.65 ; 0.895,2.65 1.645,2.65 ; 3.435,-2.65 4.185,-2.65 ; 3.435,2.65 4.185,2.65 ; 5.975,-2.65 6.725,-2.65 ; 5.975,2.65 6.725,2.65 ; 8.515,-2.65 9.265,-2.65 ; 8.515,2.65 9.265,2.65 ; 11.055,-2.65 11.805,-2.65 ; 11.055,2.65 11.805,2.65 ; 13.595,-2.65 14.345,-2.65 ; 13.595,2.65 14.345,2.65 ; 16.135,-2.65 16.885,-2.65 ; 16.135,2.65 16.885,2.65 ; 18.675,-2.65 19.425,-2.65 ; 18.675,2.65 19.425,2.65 ; 21.215,-2.65 21.965,-2.65 ; 21.215,2.65 21.965,2.65 ; 23.755,-2.65 24.505,-2.65 ; 23.755,2.65 24.505,2.65 ; 26.295,-2.65 27.045,-2.65 ; 26.295,2.65 27.045,2.65 ; 28.835,-2.65 29.585,-2.65 ; 28.835,2.65 29.585,2.65 ; 31.375,-2.65 32.125,-2.65 ; 31.375,2.65 32.125,2.65 ; 33.915,-2.65 34.665,-2.65 ; 33.915,2.65 34.665,2.65 ; 36.455,-2.65 37.205,-2.65 ; 36.455,2.65 37.205,2.65 ; 38.995,-2.65 39.745,-2.65 ; 38.995,2.65 39.745,2.65 ; 41.535,-2.65 42.285,-2.65 ; 41.535,2.65 42.285,2.65 ; 44.075,-2.65 44.825,-2.65 ; 44.075,2.65 44.825,2.65 ; 46.615,-2.65 47.1,-2.65 47.1,2.65 46.615,2.65
Top Assembly:
  lines w0.254: -46.22,2.54 -45.72,1.833 -45.22,2.54 ; -46.99,-2.54 46.99,-2.54 46.99,2.54 -46.99,2.54 -46.99,-2.54
  text "'.Designator'" at -4.047,-2.68 h1
Top Courtyard:
  lines w0.254: -47.49,-4.07 47.49,-4.07 47.49,4.07 -47.49,4.07 -47.49,-4.07
Top Designator:
  text ".Designator" at -7.618,-0.508 h1.52

## Samtec_HLE-137-02-xxx-DV-LC_2x37_P2.54mm_Horizontal [mm]
pads (76):
  rect 1.27x2.29 smd: 1(-45.72,2.525) 2(-45.72,-2.525) 3(-43.18,2.525) 4(-43.18,-2.525) 5(-40.64,2.525) 6(-40.64,-2.525) 7(-38.1,2.525) 8(-38.1,-2.525) 9(-35.56,2.525) 10(-35.56,-2.525) 11(-33.02,2.525) 12(-33.02,-2.525) 13(-30.48,2.525) 14(-30.48,-2.525) 15(-27.94,2.525) 16(-27.94,-2.525) 17(-25.4,2.525) 18(-25.4,-2.525) 19(-22.86,2.525) 20(-22.86,-2.525) 21(-20.32,2.525) 22(-20.32,-2.525) 23(-17.78,2.525) 24(-17.78,-2.525) 25(-15.24,2.525) 26(-15.24,-2.525) 27(-12.7,2.525) 28(-12.7,-2.525) 29(-10.16,2.525) 30(-10.16,-2.525) 31(-7.62,2.525) 32(-7.62,-2.525) 33(-5.08,2.525) 34(-5.08,-2.525) 35(-2.54,2.525) 36(-2.54,-2.525) 37(0,2.525) 38(0,-2.525) 39(2.54,2.525) 40(2.54,-2.525) 41(5.08,2.525) 42(5.08,-2.525) 43(7.62,2.525) 44(7.62,-2.525) 45(10.16,2.525) 46(10.16,-2.525) 47(12.7,2.525) 48(12.7,-2.525) 49(15.24,2.525) 50(15.24,-2.525) 51(17.78,2.525) 52(17.78,-2.525) 53(20.32,2.525) 54(20.32,-2.525) 55(22.86,2.525) 56(22.86,-2.525) 57(25.4,2.525) 58(25.4,-2.525) 59(27.94,2.525) 60(27.94,-2.525) 61(30.48,2.525) 62(30.48,-2.525) 63(33.02,2.525) 64(33.02,-2.525) 65(35.56,2.525) 66(35.56,-2.525) 67(38.1,2.525) 68(38.1,-2.525) 69(40.64,2.525) 70(40.64,-2.525) 71(43.18,2.525) 72(43.18,-2.525) 73(45.72,2.525) 74(45.72,-2.525)
  round 1.19 hole 1.19: Un1(-44.45,0) Un2(44.45,0)
F.SilkS:
  lines w0.254: -46.615,-2.65 -47.1,-2.65 -47.1,2.65 -46.615,2.65 -46.615,3.67 ; -44.825,-2.65 -44.075,-2.65 ; -44.825,2.65 -44.075,2.65 ; -42.285,-2.65 -41.535,-2.65 ; -42.285,2.65 -41.535,2.65 ; -39.745,-2.65 -38.995,-2.65 ; -39.745,2.65 -38.995,2.65 ; -37.205,-2.65 -36.455,-2.65 ; -37.205,2.65 -36.455,2.65 ; -34.665,-2.65 -33.915,-2.65 ; -34.665,2.65 -33.915,2.65 ; -32.125,-2.65 -31.375,-2.65 ; -32.125,2.65 -31.375,2.65 ; -29.585,-2.65 -28.835,-2.65 ; -29.585,2.65 -28.835,2.65 ; -27.045,-2.65 -26.295,-2.65 ; -27.045,2.65 -26.295,2.65 ; -24.505,-2.65 -23.755,-2.65 ; -24.505,2.65 -23.755,2.65 ; -21.965,-2.65 -21.215,-2.65 ; -21.965,2.65 -21.215,2.65 ; -19.425,-2.65 -18.675,-2.65 ; -19.425,2.65 -18.675,2.65 ; -16.885,-2.65 -16.135,-2.65 ; -16.885,2.65 -16.135,2.65 ; -14.345,-2.65 -13.595,-2.65 ; -14.345,2.65 -13.595,2.65 ; -11.805,-2.65 -11.055,-2.65 ; -11.805,2.65 -11.055,2.65 ; -9.265,-2.65 -8.515,-2.65 ; -9.265,2.65 -8.515,2.65 ; -6.725,-2.65 -5.975,-2.65 ; -6.725,2.65 -5.975,2.65 ; -4.185,-2.65 -3.435,-2.65 ; -4.185,2.65 -3.435,2.65 ; -1.645,-2.65 -0.895,-2.65 ; -1.645,2.65 -0.895,2.65 ; 0.895,-2.65 1.645,-2.65 ; 0.895,2.65 1.645,2.65 ; 3.435,-2.65 4.185,-2.65 ; 3.435,2.65 4.185,2.65 ; 5.975,-2.65 6.725,-2.65 ; 5.975,2.65 6.725,2.65 ; 8.515,-2.65 9.265,-2.65 ; 8.515,2.65 9.265,2.65 ; 11.055,-2.65 11.805,-2.65 ; 11.055,2.65 11.805,2.65 ; 13.595,-2.65 14.345,-2.65 ; 13.595,2.65 14.345,2.65 ; 16.135,-2.65 16.885,-2.65 ; 16.135,2.65 16.885,2.65 ; 18.675,-2.65 19.425,-2.65 ; 18.675,2.65 19.425,2.65 ; 21.215,-2.65 21.965,-2.65 ; 21.215,2.65 21.965,2.65 ; 23.755,-2.65 24.505,-2.65 ; 23.755,2.65 24.505,2.65 ; 26.295,-2.65 27.045,-2.65 ; 26.295,2.65 27.045,2.65 ; 28.835,-2.65 29.585,-2.65 ; 28.835,2.65 29.585,2.65 ; 31.375,-2.65 32.125,-2.65 ; 31.375,2.65 32.125,2.65 ; 33.915,-2.65 34.665,-2.65 ; 33.915,2.65 34.665,2.65 ; 36.455,-2.65 37.205,-2.65 ; 36.455,2.65 37.205,2.65 ; 38.995,-2.65 39.745,-2.65 ; 38.995,2.65 39.745,2.65 ; 41.535,-2.65 42.285,-2.65 ; 41.535,2.65 42.285,2.65 ; 44.075,-2.65 44.825,-2.65 ; 44.075,2.65 44.825,2.65 ; 46.615,-2.65 47.1,-2.65 47.1,2.65 46.615,2.65
Top Assembly:
  lines w0.254: -46.22,2.54 -45.72,1.833 -45.22,2.54 ; -46.99,-2.54 46.99,-2.54 46.99,2.54 -46.99,2.54 -46.99,-2.54
  text "'.Designator'" at -4.047,-2.68 h1
Top Courtyard:
  lines w0.254: -47.49,-4.17 47.49,-4.17 47.49,4.17 -47.49,4.17 -47.49,-4.17
Top Designator:
  text ".Designator" at -7.618,-0.508 h1.52

## Samtec_HLE-137-02-xxx-DV_2x37_P2.54mm_Horizontal [mm]
pads (74):
  rect 1.27x2.29 smd: 1(-45.72,2.525) 2(-45.72,-2.525) 3(-43.18,2.525) 4(-43.18,-2.525) 5(-40.64,2.525) 6(-40.64,-2.525) 7(-38.1,2.525) 8(-38.1,-2.525) 9(-35.56,2.525) 10(-35.56,-2.525) 11(-33.02,2.525) 12(-33.02,-2.525) 13(-30.48,2.525) 14(-30.48,-2.525) 15(-27.94,2.525) 16(-27.94,-2.525) 17(-25.4,2.525) 18(-25.4,-2.525) 19(-22.86,2.525) 20(-22.86,-2.525) 21(-20.32,2.525) 22(-20.32,-2.525) 23(-17.78,2.525) 24(-17.78,-2.525) 25(-15.24,2.525) 26(-15.24,-2.525) 27(-12.7,2.525) 28(-12.7,-2.525) 29(-10.16,2.525) 30(-10.16,-2.525) 31(-7.62,2.525) 32(-7.62,-2.525) 33(-5.08,2.525) 34(-5.08,-2.525) 35(-2.54,2.525) 36(-2.54,-2.525) 37(0,2.525) 38(0,-2.525) 39(2.54,2.525) 40(2.54,-2.525) 41(5.08,2.525) 42(5.08,-2.525) 43(7.62,2.525) 44(7.62,-2.525) 45(10.16,2.525) 46(10.16,-2.525) 47(12.7,2.525) 48(12.7,-2.525) 49(15.24,2.525) 50(15.24,-2.525) 51(17.78,2.525) 52(17.78,-2.525) 53(20.32,2.525) 54(20.32,-2.525) 55(22.86,2.525) 56(22.86,-2.525) 57(25.4,2.525) 58(25.4,-2.525) 59(27.94,2.525) 60(27.94,-2.525) 61(30.48,2.525) 62(30.48,-2.525) 63(33.02,2.525) 64(33.02,-2.525) 65(35.56,2.525) 66(35.56,-2.525) 67(38.1,2.525) 68(38.1,-2.525) 69(40.64,2.525) 70(40.64,-2.525) 71(43.18,2.525) 72(43.18,-2.525) 73(45.72,2.525) 74(45.72,-2.525)
F.SilkS:
  lines w0.254: -46.615,-2.65 -47.1,-2.65 -47.1,2.65 -46.615,2.65 -46.615,3.67 ; -44.825,-2.65 -44.075,-2.65 ; -44.825,2.65 -44.075,2.65 ; -42.285,-2.65 -41.535,-2.65 ; -42.285,2.65 -41.535,2.65 ; -39.745,-2.65 -38.995,-2.65 ; -39.745,2.65 -38.995,2.65 ; -37.205,-2.65 -36.455,-2.65 ; -37.205,2.65 -36.455,2.65 ; -34.665,-2.65 -33.915,-2.65 ; -34.665,2.65 -33.915,2.65 ; -32.125,-2.65 -31.375,-2.65 ; -32.125,2.65 -31.375,2.65 ; -29.585,-2.65 -28.835,-2.65 ; -29.585,2.65 -28.835,2.65 ; -27.045,-2.65 -26.295,-2.65 ; -27.045,2.65 -26.295,2.65 ; -24.505,-2.65 -23.755,-2.65 ; -24.505,2.65 -23.755,2.65 ; -21.965,-2.65 -21.215,-2.65 ; -21.965,2.65 -21.215,2.65 ; -19.425,-2.65 -18.675,-2.65 ; -19.425,2.65 -18.675,2.65 ; -16.885,-2.65 -16.135,-2.65 ; -16.885,2.65 -16.135,2.65 ; -14.345,-2.65 -13.595,-2.65 ; -14.345,2.65 -13.595,2.65 ; -11.805,-2.65 -11.055,-2.65 ; -11.805,2.65 -11.055,2.65 ; -9.265,-2.65 -8.515,-2.65 ; -9.265,2.65 -8.515,2.65 ; -6.725,-2.65 -5.975,-2.65 ; -6.725,2.65 -5.975,2.65 ; -4.185,-2.65 -3.435,-2.65 ; -4.185,2.65 -3.435,2.65 ; -1.645,-2.65 -0.895,-2.65 ; -1.645,2.65 -0.895,2.65 ; 0.895,-2.65 1.645,-2.65 ; 0.895,2.65 1.645,2.65 ; 3.435,-2.65 4.185,-2.65 ; 3.435,2.65 4.185,2.65 ; 5.975,-2.65 6.725,-2.65 ; 5.975,2.65 6.725,2.65 ; 8.515,-2.65 9.265,-2.65 ; 8.515,2.65 9.265,2.65 ; 11.055,-2.65 11.805,-2.65 ; 11.055,2.65 11.805,2.65 ; 13.595,-2.65 14.345,-2.65 ; 13.595,2.65 14.345,2.65 ; 16.135,-2.65 16.885,-2.65 ; 16.135,2.65 16.885,2.65 ; 18.675,-2.65 19.425,-2.65 ; 18.675,2.65 19.425,2.65 ; 21.215,-2.65 21.965,-2.65 ; 21.215,2.65 21.965,2.65 ; 23.755,-2.65 24.505,-2.65 ; 23.755,2.65 24.505,2.65 ; 26.295,-2.65 27.045,-2.65 ; 26.295,2.65 27.045,2.65 ; 28.835,-2.65 29.585,-2.65 ; 28.835,2.65 29.585,2.65 ; 31.375,-2.65 32.125,-2.65 ; 31.375,2.65 32.125,2.65 ; 33.915,-2.65 34.665,-2.65 ; 33.915,2.65 34.665,2.65 ; 36.455,-2.65 37.205,-2.65 ; 36.455,2.65 37.205,2.65 ; 38.995,-2.65 39.745,-2.65 ; 38.995,2.65 39.745,2.65 ; 41.535,-2.65 42.285,-2.65 ; 41.535,2.65 42.285,2.65 ; 44.075,-2.65 44.825,-2.65 ; 44.075,2.65 44.825,2.65 ; 46.615,-2.65 47.1,-2.65 47.1,2.65 46.615,2.65
Top Assembly:
  lines w0.254: -46.22,2.54 -45.72,1.833 -45.22,2.54 ; -46.99,-2.54 46.99,-2.54 46.99,2.54 -46.99,2.54 -46.99,-2.54
  text "'.Designator'" at -4.047,-2.68 h1
Top Courtyard:
  lines w0.254: -47.49,-4.17 47.49,-4.17 47.49,4.17 -47.49,4.17 -47.49,-4.17
Top Designator:
  text ".Designator" at -7.618,-0.508 h1.52

## Samtec_HLE-138-02-xxx-DV-A_2x38_P2.54mm_Horizontal [mm]
pads (78):
  rect 1.27x2.29 smd: 1(-46.99,2.525) 2(-46.99,-2.525) 3(-44.45,2.525) 4(-44.45,-2.525) 5(-41.91,2.525) 6(-41.91,-2.525) 7(-39.37,2.525) 8(-39.37,-2.525) 9(-36.83,2.525) 10(-36.83,-2.525) 11(-34.29,2.525) 12(-34.29,-2.525) 13(-31.75,2.525) 14(-31.75,-2.525) 15(-29.21,2.525) 16(-29.21,-2.525) 17(-26.67,2.525) 18(-26.67,-2.525) 19(-24.13,2.525) 20(-24.13,-2.525) 21(-21.59,2.525) 22(-21.59,-2.525) 23(-19.05,2.525) 24(-19.05,-2.525) 25(-16.51,2.525) 26(-16.51,-2.525) 27(-13.97,2.525) 28(-13.97,-2.525) 29(-11.43,2.525) 30(-11.43,-2.525) 31(-8.89,2.525) 32(-8.89,-2.525) 33(-6.35,2.525) 34(-6.35,-2.525) 35(-3.81,2.525) 36(-3.81,-2.525) 37(-1.27,2.525) 38(-1.27,-2.525) 39(1.27,2.525) 40(1.27,-2.525) 41(3.81,2.525) 42(3.81,-2.525) 43(6.35,2.525) 44(6.35,-2.525) 45(8.89,2.525) 46(8.89,-2.525) 47(11.43,2.525) 48(11.43,-2.525) 49(13.97,2.525) 50(13.97,-2.525) 51(16.51,2.525) 52(16.51,-2.525) 53(19.05,2.525) 54(19.05,-2.525) 55(21.59,2.525) 56(21.59,-2.525) 57(24.13,2.525) 58(24.13,-2.525) 59(26.67,2.525) 60(26.67,-2.525) 61(29.21,2.525) 62(29.21,-2.525) 63(31.75,2.525) 64(31.75,-2.525) 65(34.29,2.525) 66(34.29,-2.525) 67(36.83,2.525) 68(36.83,-2.525) 69(39.37,2.525) 70(39.37,-2.525) 71(41.91,2.525) 72(41.91,-2.525) 73(44.45,2.525) 74(44.45,-2.525) 75(46.99,2.525) 76(46.99,-2.525)
  round 1.78 hole 1.78: Un1(-45.72,0) Un2(45.72,0)
F.SilkS:
  lines w0.254: -47.885,-2.65 -48.37,-2.65 -48.37,2.65 -47.885,2.65 -47.885,3.67 ; -46.095,-2.65 -45.345,-2.65 ; -46.095,2.65 -45.345,2.65 ; -43.555,-2.65 -42.805,-2.65 ; -43.555,2.65 -42.805,2.65 ; -41.015,-2.65 -40.265,-2.65 ; -41.015,2.65 -40.265,2.65 ; -38.475,-2.65 -37.725,-2.65 ; -38.475,2.65 -37.725,2.65 ; -35.935,-2.65 -35.185,-2.65 ; -35.935,2.65 -35.185,2.65 ; -33.395,-2.65 -32.645,-2.65 ; -33.395,2.65 -32.645,2.65 ; -30.855,-2.65 -30.105,-2.65 ; -30.855,2.65 -30.105,2.65 ; -28.315,-2.65 -27.565,-2.65 ; -28.315,2.65 -27.565,2.65 ; -25.775,-2.65 -25.025,-2.65 ; -25.775,2.65 -25.025,2.65 ; -23.235,-2.65 -22.485,-2.65 ; -23.235,2.65 -22.485,2.65 ; -20.695,-2.65 -19.945,-2.65 ; -20.695,2.65 -19.945,2.65 ; -18.155,-2.65 -17.405,-2.65 ; -18.155,2.65 -17.405,2.65 ; -15.615,-2.65 -14.865,-2.65 ; -15.615,2.65 -14.865,2.65 ; -13.075,-2.65 -12.325,-2.65 ; -13.075,2.65 -12.325,2.65 ; -10.535,-2.65 -9.785,-2.65 ; -10.535,2.65 -9.785,2.65 ; -7.995,-2.65 -7.245,-2.65 ; -7.995,2.65 -7.245,2.65 ; -5.455,-2.65 -4.705,-2.65 ; -5.455,2.65 -4.705,2.65 ; -2.915,-2.65 -2.165,-2.65 ; -2.915,2.65 -2.165,2.65 ; -0.375,-2.65 0.375,-2.65 ; -0.375,2.65 0.375,2.65 ; 2.165,-2.65 2.915,-2.65 ; 2.165,2.65 2.915,2.65 ; 4.705,-2.65 5.455,-2.65 ; 4.705,2.65 5.455,2.65 ; 7.245,-2.65 7.995,-2.65 ; 7.245,2.65 7.995,2.65 ; 9.785,-2.65 10.535,-2.65 ; 9.785,2.65 10.535,2.65 ; 12.325,-2.65 13.075,-2.65 ; 12.325,2.65 13.075,2.65 ; 14.865,-2.65 15.615,-2.65 ; 14.865,2.65 15.615,2.65 ; 17.405,-2.65 18.155,-2.65 ; 17.405,2.65 18.155,2.65 ; 19.945,-2.65 20.695,-2.65 ; 19.945,2.65 20.695,2.65 ; 22.485,-2.65 23.235,-2.65 ; 22.485,2.65 23.235,2.65 ; 25.025,-2.65 25.775,-2.65 ; 25.025,2.65 25.775,2.65 ; 27.565,-2.65 28.315,-2.65 ; 27.565,2.65 28.315,2.65 ; 30.105,-2.65 30.855,-2.65 ; 30.105,2.65 30.855,2.65 ; 32.645,-2.65 33.395,-2.65 ; 32.645,2.65 33.395,2.65 ; 35.185,-2.65 35.935,-2.65 ; 35.185,2.65 35.935,2.65 ; 37.725,-2.65 38.475,-2.65 ; 37.725,2.65 38.475,2.65 ; 40.265,-2.65 41.015,-2.65 ; 40.265,2.65 41.015,2.65 ; 42.805,-2.65 43.555,-2.65 ; 42.805,2.65 43.555,2.65 ; 45.345,-2.65 46.095,-2.65 ; 45.345,2.65 46.095,2.65 ; 47.885,-2.65 48.37,-2.65 48.37,2.65 47.885,2.65
Top Assembly:
  lines w0.254: -47.49,2.54 -46.99,1.833 -46.49,2.54 ; -48.26,-2.54 48.26,-2.54 48.26,2.54 -48.26,2.54 -48.26,-2.54
  text "'.Designator'" at -4.047,-2.68 h1
Top Courtyard:
  lines w0.254: -48.76,-4.17 48.76,-4.17 48.76,4.17 -48.76,4.17 -48.76,-4.17
Top Designator:
  text ".Designator" at -7.618,-0.508 h1.52

## Samtec_HLE-138-02-xxx-DV-BE-A_2x38_P2.54mm_Horizontal [mm]
pads (154):
  rect 1.27x1.68 smd: 1(-46.99,2.72) 2(-46.99,-2.72) 3(-44.45,2.72) 4(-44.45,-2.72) 5(-41.91,2.72) 6(-41.91,-2.72) 7(-39.37,2.72) 8(-39.37,-2.72) 9(-36.83,2.72) 10(-36.83,-2.72) 11(-34.29,2.72) 12(-34.29,-2.72) 13(-31.75,2.72) 14(-31.75,-2.72) 15(-29.21,2.72) 16(-29.21,-2.72) 17(-26.67,2.72) 18(-26.67,-2.72) 19(-24.13,2.72) 20(-24.13,-2.72) 21(-21.59,2.72) 22(-21.59,-2.72) 23(-19.05,2.72) 24(-19.05,-2.72) 25(-16.51,2.72) 26(-16.51,-2.72) 27(-13.97,2.72) 28(-13.97,-2.72) 29(-11.43,2.72) 30(-11.43,-2.72) 31(-8.89,2.72) 32(-8.89,-2.72) 33(-6.35,2.72) 34(-6.35,-2.72) 35(-3.81,2.72) 36(-3.81,-2.72) 37(-1.27,2.72) 38(-1.27,-2.72) 39(1.27,2.72) 40(1.27,-2.72) 41(3.81,2.72) 42(3.81,-2.72) 43(6.35,2.72) 44(6.35,-2.72) 45(8.89,2.72) 46(8.89,-2.72) 47(11.43,2.72) 48(11.43,-2.72) 49(13.97,2.72) 50(13.97,-2.72) 51(16.51,2.72) 52(16.51,-2.72) 53(19.05,2.72) 54(19.05,-2.72) 55(21.59,2.72) 56(21.59,-2.72) 57(24.13,2.72) 58(24.13,-2.72) 59(26.67,2.72) 60(26.67,-2.72) 61(29.21,2.72) 62(29.21,-2.72) 63(31.75,2.72) 64(31.75,-2.72) 65(34.29,2.72) 66(34.29,-2.72) 67(36.83,2.72) 68(36.83,-2.72) 69(39.37,2.72) 70(39.37,-2.72) 71(41.91,2.72) 72(41.91,-2.72) 73(44.45,2.72) 74(44.45,-2.72) 75(46.99,2.72) 76(46.99,-2.72)
  round 0.97 hole 0.97: Un1(-46.99,1.27) Un2(-46.99,-1.27) Un4(-44.45,1.27) Un5(-44.45,-1.27) Un6(-41.91,1.27) Un7(-41.91,-1.27) Un8(-39.37,1.27) Un9(-39.37,-1.27) Un10(-36.83,1.27) Un11(-36.83,-1.27) Un12(-34.29,1.27) Un13(-34.29,-1.27) Un14(-31.75,1.27) Un15(-31.75,-1.27) Un16(-29.21,1.27) Un17(-29.21,-1.27) Un18(-26.67,1.27) Un19(-26.67,-1.27) Un20(-24.13,1.27) Un21(-24.13,-1.27) Un22(-21.59,1.27) Un23(-21.59,-1.27) Un24(-19.05,1.27) Un25(-19.05,-1.27) Un26(-16.51,1.27) Un27(-16.51,-1.27) Un28(-13.97,1.27) Un29(-13.97,-1.27) Un30(-11.43,1.27) Un31(-11.43,-1.27) Un32(-8.89,1.27) Un33(-8.89,-1.27) Un34(-6.35,1.27) Un35(-6.35,-1.27) Un36(-3.81,1.27) Un37(-3.81,-1.27) Un38(-1.27,1.27) Un39(-1.27,-1.27) Un40(1.27,1.27) Un41(1.27,-1.27) Un42(3.81,1.27) Un43(3.81,-1.27) Un44(6.35,1.27) Un45(6.35,-1.27) Un46(8.89,1.27) Un47(8.89,-1.27) Un48(11.43,1.27) Un49(11.43,-1.27) Un50(13.97,1.27) Un51(13.97,-1.27) Un52(16.51,1.27) Un53(16.51,-1.27) Un54(19.05,1.27) Un55(19.05,-1.27) Un56(21.59,1.27) Un57(21.59,-1.27) Un58(24.13,1.27) Un59(24.13,-1.27) Un60(26.67,1.27) Un61(26.67,-1.27) Un62(29.21,1.27) Un63(29.21,-1.27) Un64(31.75,1.27) Un65(31.75,-1.27) Un66(34.29,1.27) Un67(34.29,-1.27) Un68(36.83,1.27) Un69(36.83,-1.27) Un70(39.37,1.27) Un71(39.37,-1.27) Un72(41.91,1.27) Un73(41.91,-1.27) Un74(44.45,1.27) Un75(44.45,-1.27) Un77(46.99,1.27) Un78(46.99,-1.27)
  round 1.78 hole 1.78: Un3(-45.72,0) Un76(45.72,0)
F.SilkS:
  lines w0.254: -47.885,-2.65 -48.37,-2.65 -48.37,2.65 -47.885,2.65 -47.885,3.56 ; -46.095,-2.65 -45.345,-2.65 ; -46.095,2.65 -45.345,2.65 ; -43.555,-2.65 -42.805,-2.65 ; -43.555,2.65 -42.805,2.65 ; -41.015,-2.65 -40.265,-2.65 ; -41.015,2.65 -40.265,2.65 ; -38.475,-2.65 -37.725,-2.65 ; -38.475,2.65 -37.725,2.65 ; -35.935,-2.65 -35.185,-2.65 ; -35.935,2.65 -35.185,2.65 ; -33.395,-2.65 -32.645,-2.65 ; -33.395,2.65 -32.645,2.65 ; -30.855,-2.65 -30.105,-2.65 ; -30.855,2.65 -30.105,2.65 ; -28.315,-2.65 -27.565,-2.65 ; -28.315,2.65 -27.565,2.65 ; -25.775,-2.65 -25.025,-2.65 ; -25.775,2.65 -25.025,2.65 ; -23.235,-2.65 -22.485,-2.65 ; -23.235,2.65 -22.485,2.65 ; -20.695,-2.65 -19.945,-2.65 ; -20.695,2.65 -19.945,2.65 ; -18.155,-2.65 -17.405,-2.65 ; -18.155,2.65 -17.405,2.65 ; -15.615,-2.65 -14.865,-2.65 ; -15.615,2.65 -14.865,2.65 ; -13.075,-2.65 -12.325,-2.65 ; -13.075,2.65 -12.325,2.65 ; -10.535,-2.65 -9.785,-2.65 ; -10.535,2.65 -9.785,2.65 ; -7.995,-2.65 -7.245,-2.65 ; -7.995,2.65 -7.245,2.65 ; -5.455,-2.65 -4.705,-2.65 ; -5.455,2.65 -4.705,2.65 ; -2.915,-2.65 -2.165,-2.65 ; -2.915,2.65 -2.165,2.65 ; -0.375,-2.65 0.375,-2.65 ; -0.375,2.65 0.375,2.65 ; 2.165,-2.65 2.915,-2.65 ; 2.165,2.65 2.915,2.65 ; 4.705,-2.65 5.455,-2.65 ; 4.705,2.65 5.455,2.65 ; 7.245,-2.65 7.995,-2.65 ; 7.245,2.65 7.995,2.65 ; 9.785,-2.65 10.535,-2.65 ; 9.785,2.65 10.535,2.65 ; 12.325,-2.65 13.075,-2.65 ; 12.325,2.65 13.075,2.65 ; 14.865,-2.65 15.615,-2.65 ; 14.865,2.65 15.615,2.65 ; 17.405,-2.65 18.155,-2.65 ; 17.405,2.65 18.155,2.65 ; 19.945,-2.65 20.695,-2.65 ; 19.945,2.65 20.695,2.65 ; 22.485,-2.65 23.235,-2.65 ; 22.485,2.65 23.235,2.65 ; 25.025,-2.65 25.775,-2.65 ; 25.025,2.65 25.775,2.65 ; 27.565,-2.65 28.315,-2.65 ; 27.565,2.65 28.315,2.65 ; 30.105,-2.65 30.855,-2.65 ; 30.105,2.65 30.855,2.65 ; 32.645,-2.65 33.395,-2.65 ; 32.645,2.65 33.395,2.65 ; 35.185,-2.65 35.935,-2.65 ; 35.185,2.65 35.935,2.65 ; 37.725,-2.65 38.475,-2.65 ; 37.725,2.65 38.475,2.65 ; 40.265,-2.65 41.015,-2.65 ; 40.265,2.65 41.015,2.65 ; 42.805,-2.65 43.555,-2.65 ; 42.805,2.65 43.555,2.65 ; 45.345,-2.65 46.095,-2.65 ; 45.345,2.65 46.095,2.65 ; 47.885,-2.65 48.37,-2.65 48.37,2.65 47.885,2.65
Top Assembly:
  lines w0.254: -47.49,2.54 -46.99,1.833 -46.49,2.54 ; -48.26,-2.54 48.26,-2.54 48.26,2.54 -48.26,2.54 -48.26,-2.54
  text "'.Designator'" at -4.047,-2.68 h1
Top Courtyard:
  lines w0.254: -48.76,-4.07 48.76,-4.07 48.76,4.07 -48.76,4.07 -48.76,-4.07
Top Designator:
  text ".Designator" at -7.618,-0.508 h1.52

## Samtec_HLE-138-02-xxx-DV-BE-LC_2x38_P2.54mm_Horizontal [mm]
pads (154):
  rect 1.27x1.68 smd: 1(-46.99,2.72) 2(-46.99,-2.72) 3(-44.45,2.72) 4(-44.45,-2.72) 5(-41.91,2.72) 6(-41.91,-2.72) 7(-39.37,2.72) 8(-39.37,-2.72) 9(-36.83,2.72) 10(-36.83,-2.72) 11(-34.29,2.72) 12(-34.29,-2.72) 13(-31.75,2.72) 14(-31.75,-2.72) 15(-29.21,2.72) 16(-29.21,-2.72) 17(-26.67,2.72) 18(-26.67,-2.72) 19(-24.13,2.72) 20(-24.13,-2.72) 21(-21.59,2.72) 22(-21.59,-2.72) 23(-19.05,2.72) 24(-19.05,-2.72) 25(-16.51,2.72) 26(-16.51,-2.72) 27(-13.97,2.72) 28(-13.97,-2.72) 29(-11.43,2.72) 30(-11.43,-2.72) 31(-8.89,2.72) 32(-8.89,-2.72) 33(-6.35,2.72) 34(-6.35,-2.72) 35(-3.81,2.72) 36(-3.81,-2.72) 37(-1.27,2.72) 38(-1.27,-2.72) 39(1.27,2.72) 40(1.27,-2.72) 41(3.81,2.72) 42(3.81,-2.72) 43(6.35,2.72) 44(6.35,-2.72) 45(8.89,2.72) 46(8.89,-2.72) 47(11.43,2.72) 48(11.43,-2.72) 49(13.97,2.72) 50(13.97,-2.72) 51(16.51,2.72) 52(16.51,-2.72) 53(19.05,2.72) 54(19.05,-2.72) 55(21.59,2.72) 56(21.59,-2.72) 57(24.13,2.72) 58(24.13,-2.72) 59(26.67,2.72) 60(26.67,-2.72) 61(29.21,2.72) 62(29.21,-2.72) 63(31.75,2.72) 64(31.75,-2.72) 65(34.29,2.72) 66(34.29,-2.72) 67(36.83,2.72) 68(36.83,-2.72) 69(39.37,2.72) 70(39.37,-2.72) 71(41.91,2.72) 72(41.91,-2.72) 73(44.45,2.72) 74(44.45,-2.72) 75(46.99,2.72) 76(46.99,-2.72)
  round 0.97 hole 0.97: Un1(-46.99,1.27) Un2(-46.99,-1.27) Un4(-44.45,1.27) Un5(-44.45,-1.27) Un6(-41.91,1.27) Un7(-41.91,-1.27) Un8(-39.37,1.27) Un9(-39.37,-1.27) Un10(-36.83,1.27) Un11(-36.83,-1.27) Un12(-34.29,1.27) Un13(-34.29,-1.27) Un14(-31.75,1.27) Un15(-31.75,-1.27) Un16(-29.21,1.27) Un17(-29.21,-1.27) Un18(-26.67,1.27) Un19(-26.67,-1.27) Un20(-24.13,1.27) Un21(-24.13,-1.27) Un22(-21.59,1.27) Un23(-21.59,-1.27) Un24(-19.05,1.27) Un25(-19.05,-1.27) Un26(-16.51,1.27) Un27(-16.51,-1.27) Un28(-13.97,1.27) Un29(-13.97,-1.27) Un30(-11.43,1.27) Un31(-11.43,-1.27) Un32(-8.89,1.27) Un33(-8.89,-1.27) Un34(-6.35,1.27) Un35(-6.35,-1.27) Un36(-3.81,1.27) Un37(-3.81,-1.27) Un38(-1.27,1.27) Un39(-1.27,-1.27) Un40(1.27,1.27) Un41(1.27,-1.27) Un42(3.81,1.27) Un43(3.81,-1.27) Un44(6.35,1.27) Un45(6.35,-1.27) Un46(8.89,1.27) Un47(8.89,-1.27) Un48(11.43,1.27) Un49(11.43,-1.27) Un50(13.97,1.27) Un51(13.97,-1.27) Un52(16.51,1.27) Un53(16.51,-1.27) Un54(19.05,1.27) Un55(19.05,-1.27) Un56(21.59,1.27) Un57(21.59,-1.27) Un58(24.13,1.27) Un59(24.13,-1.27) Un60(26.67,1.27) Un61(26.67,-1.27) Un62(29.21,1.27) Un63(29.21,-1.27) Un64(31.75,1.27) Un65(31.75,-1.27) Un66(34.29,1.27) Un67(34.29,-1.27) Un68(36.83,1.27) Un69(36.83,-1.27) Un70(39.37,1.27) Un71(39.37,-1.27) Un72(41.91,1.27) Un73(41.91,-1.27) Un74(44.45,1.27) Un75(44.45,-1.27) Un77(46.99,1.27) Un78(46.99,-1.27)
  round 1.19 hole 1.19: Un3(-45.72,0) Un76(45.72,0)
F.SilkS:
  lines w0.254: -47.885,-2.65 -48.37,-2.65 -48.37,2.65 -47.885,2.65 -47.885,3.56 ; -46.095,-2.65 -45.345,-2.65 ; -46.095,2.65 -45.345,2.65 ; -43.555,-2.65 -42.805,-2.65 ; -43.555,2.65 -42.805,2.65 ; -41.015,-2.65 -40.265,-2.65 ; -41.015,2.65 -40.265,2.65 ; -38.475,-2.65 -37.725,-2.65 ; -38.475,2.65 -37.725,2.65 ; -35.935,-2.65 -35.185,-2.65 ; -35.935,2.65 -35.185,2.65 ; -33.395,-2.65 -32.645,-2.65 ; -33.395,2.65 -32.645,2.65 ; -30.855,-2.65 -30.105,-2.65 ; -30.855,2.65 -30.105,2.65 ; -28.315,-2.65 -27.565,-2.65 ; -28.315,2.65 -27.565,2.65 ; -25.775,-2.65 -25.025,-2.65 ; -25.775,2.65 -25.025,2.65 ; -23.235,-2.65 -22.485,-2.65 ; -23.235,2.65 -22.485,2.65 ; -20.695,-2.65 -19.945,-2.65 ; -20.695,2.65 -19.945,2.65 ; -18.155,-2.65 -17.405,-2.65 ; -18.155,2.65 -17.405,2.65 ; -15.615,-2.65 -14.865,-2.65 ; -15.615,2.65 -14.865,2.65 ; -13.075,-2.65 -12.325,-2.65 ; -13.075,2.65 -12.325,2.65 ; -10.535,-2.65 -9.785,-2.65 ; -10.535,2.65 -9.785,2.65 ; -7.995,-2.65 -7.245,-2.65 ; -7.995,2.65 -7.245,2.65 ; -5.455,-2.65 -4.705,-2.65 ; -5.455,2.65 -4.705,2.65 ; -2.915,-2.65 -2.165,-2.65 ; -2.915,2.65 -2.165,2.65 ; -0.375,-2.65 0.375,-2.65 ; -0.375,2.65 0.375,2.65 ; 2.165,-2.65 2.915,-2.65 ; 2.165,2.65 2.915,2.65 ; 4.705,-2.65 5.455,-2.65 ; 4.705,2.65 5.455,2.65 ; 7.245,-2.65 7.995,-2.65 ; 7.245,2.65 7.995,2.65 ; 9.785,-2.65 10.535,-2.65 ; 9.785,2.65 10.535,2.65 ; 12.325,-2.65 13.075,-2.65 ; 12.325,2.65 13.075,2.65 ; 14.865,-2.65 15.615,-2.65 ; 14.865,2.65 15.615,2.65 ; 17.405,-2.65 18.155,-2.65 ; 17.405,2.65 18.155,2.65 ; 19.945,-2.65 20.695,-2.65 ; 19.945,2.65 20.695,2.65 ; 22.485,-2.65 23.235,-2.65 ; 22.485,2.65 23.235,2.65 ; 25.025,-2.65 25.775,-2.65 ; 25.025,2.65 25.775,2.65 ; 27.565,-2.65 28.315,-2.65 ; 27.565,2.65 28.315,2.65 ; 30.105,-2.65 30.855,-2.65 ; 30.105,2.65 30.855,2.65 ; 32.645,-2.65 33.395,-2.65 ; 32.645,2.65 33.395,2.65 ; 35.185,-2.65 35.935,-2.65 ; 35.185,2.65 35.935,2.65 ; 37.725,-2.65 38.475,-2.65 ; 37.725,2.65 38.475,2.65 ; 40.265,-2.65 41.015,-2.65 ; 40.265,2.65 41.015,2.65 ; 42.805,-2.65 43.555,-2.65 ; 42.805,2.65 43.555,2.65 ; 45.345,-2.65 46.095,-2.65 ; 45.345,2.65 46.095,2.65 ; 47.885,-2.65 48.37,-2.65 48.37,2.65 47.885,2.65
Top Assembly:
  lines w0.254: -47.49,2.54 -46.99,1.833 -46.49,2.54 ; -48.26,-2.54 48.26,-2.54 48.26,2.54 -48.26,2.54 -48.26,-2.54
  text "'.Designator'" at -4.047,-2.68 h1
Top Courtyard:
  lines w0.254: -48.76,-4.07 48.76,-4.07 48.76,4.07 -48.76,4.07 -48.76,-4.07
Top Designator:
  text ".Designator" at -7.618,-0.508 h1.52